# EAGLE library part TLV274 (library meng)
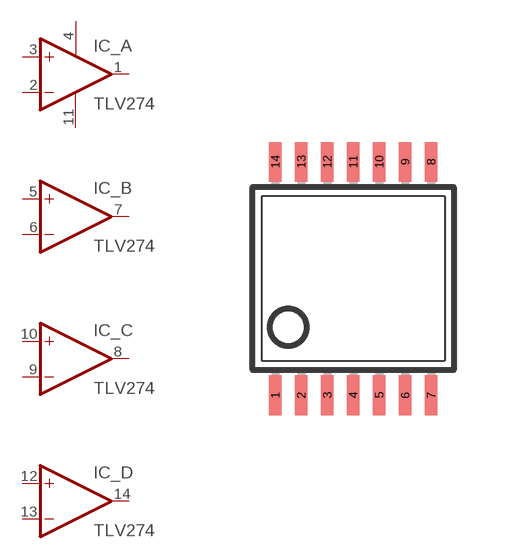
[diagram p15: symbol with the pads of TSSOP14; footprint TSSOP14]

Designator prefix IC; gates _A=OPAMP+- _B=OPAMP _C=OPAMP _D=OPAMP

## TLV274 (VALUE: TLV274)  [TSSOP14]
1  _A:OUT  out
2  _A:-IN  in
3  _A:+IN  in
4  _A:V+  pwr
5  _B:+IN  in
6  _B:-IN  in
7  _B:OUT  out
8  _C:OUT  out
9  _C:-IN  in
10  _C:+IN  in
11  _A:V-  pwr
12  _D:+IN  in
13  _D:-IN  in
14  _D:OUT  out

## Footprint TSSOP14 (pad centres in mm)
Thin Shrink Small Outline Plastic 14 MAX3223-MAX3243.pdf
smd 0.305 x 0.991: 1 -1.95,-2.918; 2 -1.3,-2.918; 3 -0.65,-2.918; 4 0,-2.918; 5 0.65,-2.918; 6 1.3,-2.918; 7 1.95,-2.918; 8 1.95,2.918; 9 1.3,2.918; 10 0.65,2.918; 11 0,2.918; 12 -0.65,2.918; 13 -1.3,2.918; 14 -1.95,2.918